# EAGLE library part MAX20019ATBI/V+ (library IC)
18V, 3.2MHZ, MINI PMIC (2X500MA Manufacturer's datasheet <https://datasheets.maximintegrated.com/en/ds/MAX20019-MAX20020.pdf>
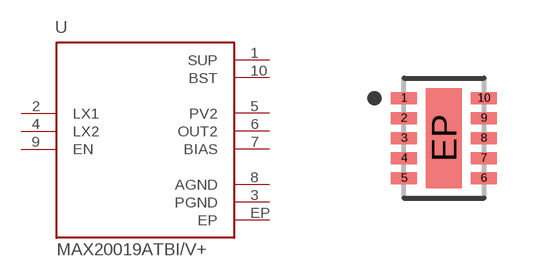
[diagram p51: symbol with the pads of 10-WFDFN; footprint 10-WFDFN]

Designator prefix U

## MAX20019ATBI/V+ (CREATED_BY: PCBLayout.com; DIGIKEY_PART_NO: 175-MAX20019ATBI/V+-ND; MANUFACTURER: Analog Devices Inc./Maxim Integrated; MPN: MAX20019ATBI/V+; PACKAGE: 10-WFDFN)  [10-WFDFN]
1  SUP  pwr
2  LX1  in
3  PGND  pwr
4  LX2  in
5  PV2  out
6  OUT2  out
7  BIAS  out
8  AGND  pwr
9  EN  in
10  BST  pwr
EP  EP  pwr

## Footprint 10-WFDFN (pad centres in mm)
smd 0.65 x 0.3: 1 -1,1; 2 -1,0.5; 3 -1,0; 4 -1,-0.5; 5 -1,-1; 6 1,-1; 7 1,-0.5; 8 1,0; 9 1,0.5; 10 1,1
smd 0.9 x 2.5: EP 0,0